# Altium footprint library Passive.PcbLib: 36 footprints (part 1 of 3)
Each footprint in its own frame and in the unit in brackets; x right, y up, seen from the top. Pads: shape width x height; smd on the part's side, far side on the other; paste and mask are expansions set on the pad; w line width, h text height; cw(c..) or ccw(c..) is an arc to the next point about the centre after c.
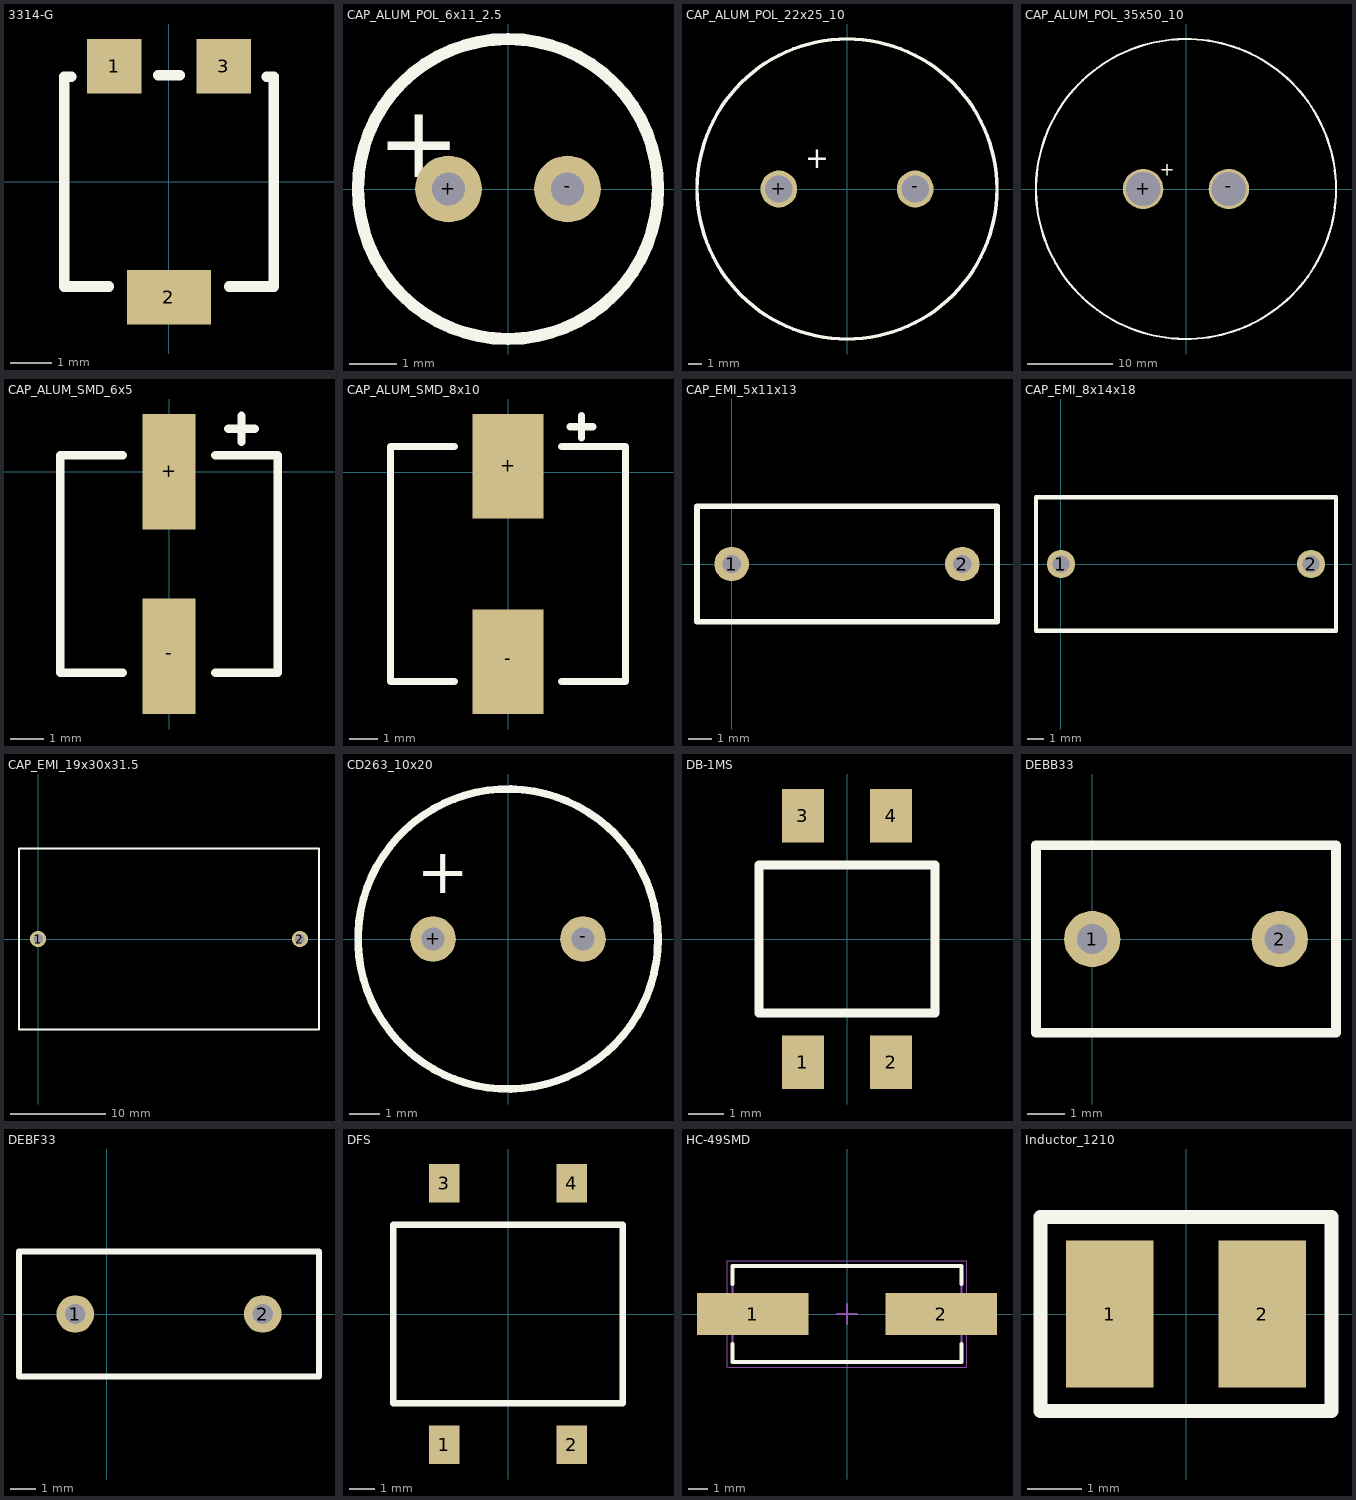
[diagram p0: the footprints below, top view; thin cyan lines are the x and y axes]

## 3314-G [mm]
pads (3):
  rect 1.3x1.3 smd: 1(-1.3,2.75) 3(1.3,2.75)
  rect 2x1.3 smd: 2(0,-2.75)
Top Overlay:
  lines w0.254: -2.326,2.5 -2.5,2.5 -2.5,-2.5 -1.437,-2.5 ; -0.254,2.54 0.254,2.54 ; 1.437,-2.5 2.5,-2.5 2.5,2.5 2.326,2.5

## CAP_ALUM_POL_6x11_2.5 [mm]
pads (2):
  round 1.4 hole 0.7: +(-1.25,0) -(1.25,0)
Top Overlay:
  circle w0.254: c0,0 r3.15
  text "+" at -2.75,0.25 h1.52
3D body "User Library-CapAluRadial_D63H110.STEP": height 12.5, standoff -3, extent -3.4,-3.4 3.4,3.4

## CAP_ALUM_POL_22x25_10 [mm]
pads (2):
  round 2.7 hole 2: +(-5,0) -(5,0)
Top Overlay:
  circle w0.254: c0,0 r11
  text "+" at -3.048,1.524 h1.52
3D body "User Library-ECEC2DP271BJ.STEP": height 25, standoff 0, extent -11.717,-12.117 12.117,11.717

## CAP_ALUM_POL_35x50_10 [mm]
pads (2):
  round 4.7 hole 4: +(-5,0) -(5,0)
Top Overlay:
  circle w0.254: c0,0 r17.5
  text "+" at -3.048,1.524 h1.52
3D body "User Library-Snap-in 35X45-P10.STEP": height 45, standoff -4.62, extent -25.129,-25.149 24.969,24.949

## CAP_ALUM_SMD_6x5 [mm]
pads (2):
  rect 1.6x3.5 smd mask+0.2: +(0,0) -(0,-5.6)
Top Overlay:
  lines w0.254: -1.4,-6.1 -3.3,-6.1 -3.3,0.5 -1.4,0.5 ; 1.4,-6.1 3.3,-6.1 3.3,0.5 1.4,0.5 ; 1.8,1.3 2.6,1.3 ; 2.2,0.9 2.2,1.7
3D body "User Library-9D.STEP": height 6.42, standoff 0, extent -2.6,-5.8 2.7,0.2

## CAP_ALUM_SMD_8x10 [mm]
pads (2):
  rect 2.5x3.7 smd mask+0.2: +(0,0.2) -(0,-6.7)
Top Overlay:
  lines w0.254: -1.9,-7.4 -4.15,-7.4 -4.15,0.9 -1.9,0.9 ; 1.9,-7.4 4.15,-7.4 4.15,0.9 1.9,0.9 ; 2.2,1.6 3,1.6 ; 2.6,1.2 2.6,2
3D body "User Library-cap electrolytic.STEP": height 10.05, standoff -0.15, extent -4.175,-8.25 4.125,1.75

## CAP_EMI_5x11x13 [mm]
pads (2):
  round 1.5 hole 0.8: 1(0,0) 2(10,0)
Top Overlay:
  lines w0.254: -1.5,-2.5 -1.5,2.5 11.5,2.5 11.5,-2.5 -1.5,-2.5
3D body: height 11, standoff 0, extent -1.5,-2.5 11.5,2.5

## CAP_EMI_8x14x18 [mm]
pads (2):
  round 1.7 hole 1: 1(0,0) 2(15,0)
Top Overlay:
  lines w0.254: -1.5,-4 -1.5,4 16.5,4 16.5,-4 -1.5,-4
3D body "User Library-CAP_POLY_15mm.STEP": height 16, standoff -4, extent -2,-4 17,4

## CAP_EMI_19x30x31.5 [mm]
pads (2):
  round 1.7 hole 1: 1(0,0) 2(27.5,0)
Top Overlay:
  lines w0.254: -2,-9.5 29.5,-9.5 29.5,9.5 -2,9.5 -2,-9.5
3D body "User Library-User Library-B32924.STEP": height 20, standoff -8, extent -2,-5.5 29.5,5.5

## CD263_10x20 [mm]
pads (2):
  round 1.524 hole 0.75: +(-2.5,0) -(2.5,0)
Top Overlay:
  circle w0.254: c0,0 r5
  text "+" at -3.048,1.524 h1.52
3D body "CAP_Electrolytic_10X20.step": height 23.1, standoff -1.72, extent -5,-4.72 5,5.28

## DB-1MS [mm]
pads (4):
  rect 1.2x1.52 smd: 1(-1.25,-3.5) 2(1.25,-3.5) 3(-1.25,3.5) 4(1.25,3.5)
Top Overlay:
  lines w0.254: -2.5,-2.1 2.5,-2.1 2.5,2.1 -2.5,2.1 -2.5,-2.1

## DEBB33 [mm]
pads (2):
  round 1.5 hole 0.8: 1(0,0) 2(5,0)
Top Overlay:
  lines w0.254: -1.5,-2.5 6.5,-2.5 6.5,2.5 -1.5,2.5 -1.5,0 -1.5,-2.5
3D body "User Library-DEBB33A102KA2B.STEP": height 10, standoff -3, extent -0.5,-2 5.5,2

## DEBF33 [mm]
pads (2):
  round 1.5 hole 0.8: 1(-1.25,0) 2(6.25,0)
Top Overlay:
  lines w0.254: -3.5,-2.5 -3.5,0 -3.5,2.5 8.5,2.5 8.5,-2.5 -3.5,-2.5
3D body "User Library-S10K275.STEP": height 14.5, standoff -1, extent -3.788,-3.388 8.787,3.389

## DFS [mm]
pads (4):
  rect 1.2x1.52 smd: 1(-2.5,-5.13) 2(2.5,-5.13) 3(-2.5,5.13) 4(2.5,5.13)
Top Overlay:
  lines w0.254: -4.5,-3.5 4.5,-3.5 4.5,3.5 -4.5,3.5 -4.5,-3.5

## HC-49SMD [mm] "Crystal, 2-Leads, Body 4.70x11.40mm, Pitch 8.80mm, IPC Medium Density"
height 4.2
pads (2):
  rect 5.6x2.1 smd: 1(-4.75,0) 2(4.75,0)
Top Overlay:
  lines w0.2: -5.775,-1.5 -5.775,-2.425 5.775,-2.425 5.775,-1.5 ; -5.775,1.5 -5.775,2.425 5.775,2.425 5.775,1.5
Mechanical 13:
  lines w0.1: -5.775,-2.425 5.775,-2.425 5.775,2.425 -5.775,2.425 -5.775,-2.425
Mechanical 15:
  lines w0.05: -6.025,-2.675 6.025,-2.675 6.025,2.675 -6.025,2.675 -6.025,-2.675
  lines w0.1: -0.5,0 0.5,0 ; 0,-0.5 0,0.5
3D body "HC49US SMT Crystal.STEP": height 4.2, standoff 0, extent -6.35,-2.35 6.35,2.35

## Inductor_1210 [mm]
pads (2):
  rect 1.6x2.7 smd: 1(-1.4,0) 2(1.4,0)
Top Overlay:
  lines w0.254: -2.667,-1.778 2.667,-1.778 2.667,1.778 -2.667,1.778 -2.667,-1.778
3D body "Inductor_1210.step": height 2, standoff 0, extent -1.601,-1.36 1.601,1.36